# Altium schematic symbol library Power Management Linear Regulator.SchLib: 508 symbols (part 9 of 10)
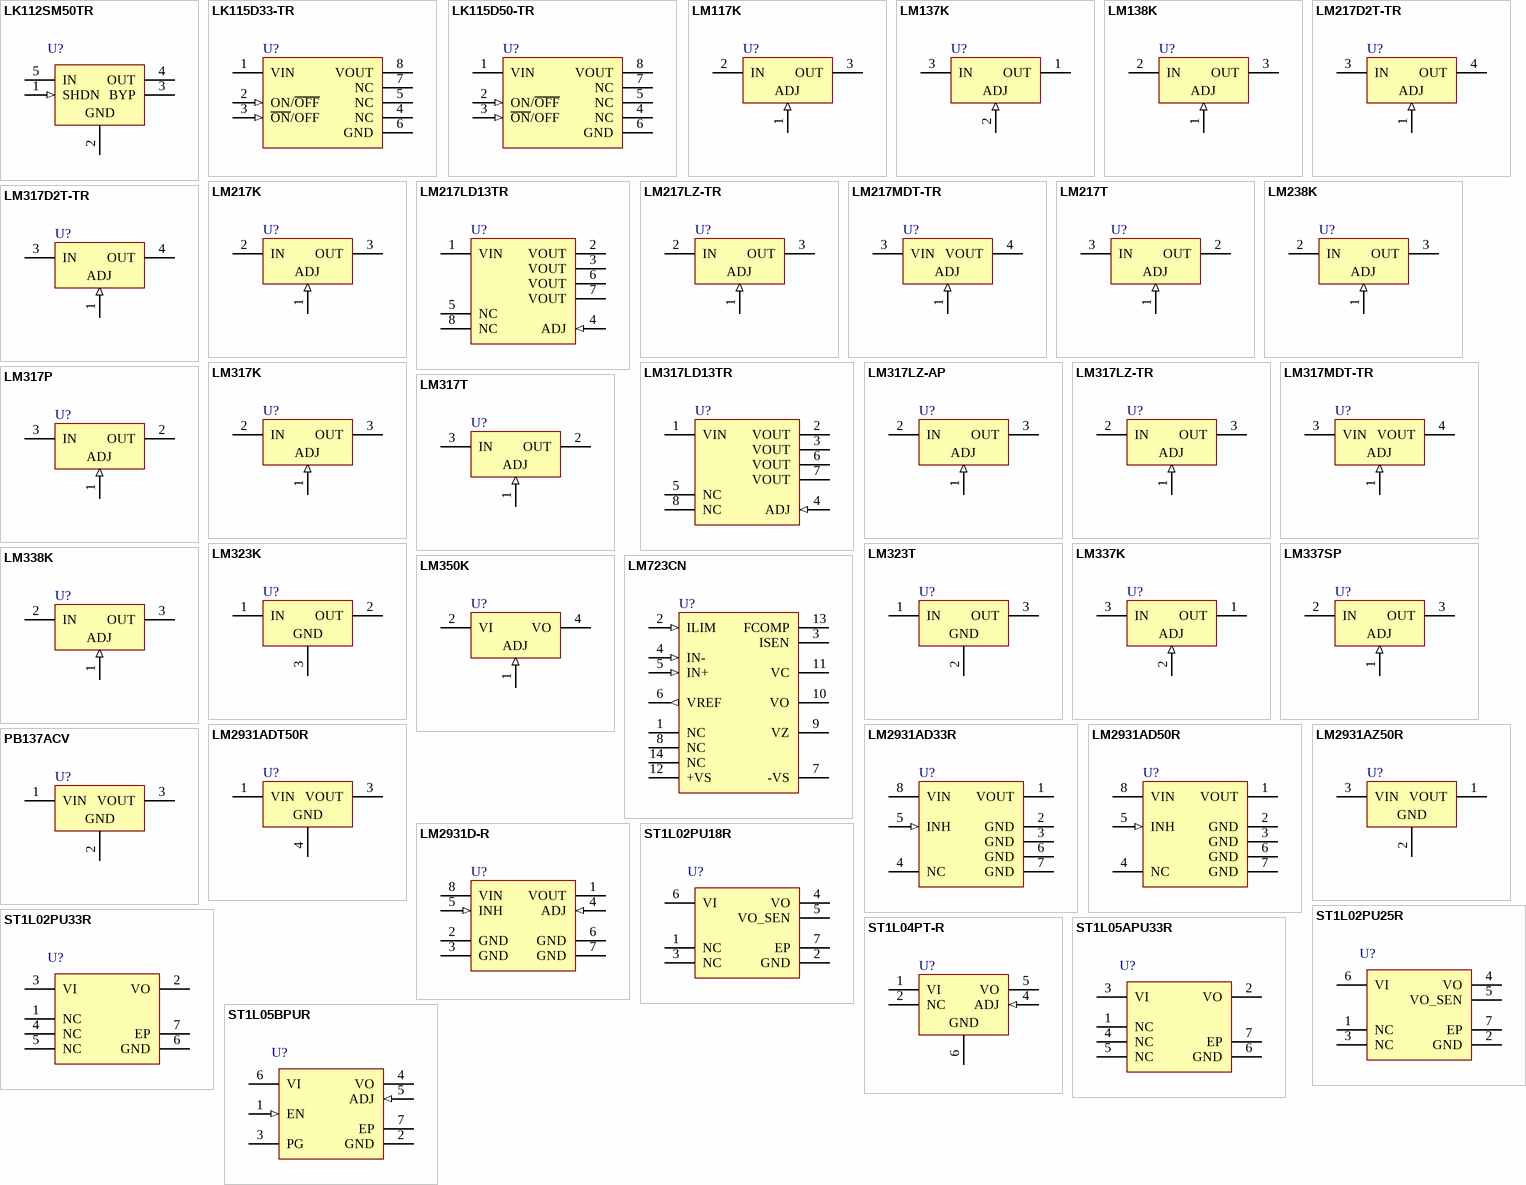
[diagram p20: symbols LK112SM50TR to ST1L05BPUR]

## LM217D2T-TR
designator U?
1.5A, 1.2V to 37V Adjustable Voltage Regulator, 3-Pin D2PAK, Tape and Reel; PartNumber: LM217D2T-TR; DatasheetVersion: Nov-2011; PackageVersion: 2011; PackageReference: TO-263; PackageDescription: 3-Pin Transistor Outline Package 2.54 mm Pitch, 15.4 mm Lead Span (D2PAK); ComponentLink1Description: Manufacturer URL; ComponentLink1URL: http://www.st.com; ComponentLink2Description: Datasheet; ComponentLink2URL: http://www.st.com/internet/com/TECHNICAL_RESOURCES/TECHNICAL_LITERATURE/DATASHEET/CD00000455.pdf
footprint TO-263_N (D2-PAK, 4-Leads, Body 9.2x10.2mm, Pitch 2.54mm, Lead Span 15.4mm, IPC Medium Density)
footprint TO-263_L (D2-PAK, 4-Leads, Body 9.2x10.2mm, Pitch 2.54mm, Lead Span 15.4mm, IPC High Density)
footprint TO-263_M (D2-PAK, 4-Leads, Body 9.2x10.2mm, Pitch 2.54mm, Lead Span 15.4mm, IPC Low Density)
pins: 1 ADJ (in), 3 IN (power), 4 OUT (power)

## LM217K
designator U?
1.5A, 1.2V to 37V Adjustable Voltage Regulator, 3-Pin TO-3; PartNumber: LM217K; DatasheetVersion: Nov-2011; PackageVersion: ver1.0, Nov-2002; PackageReference: TO-3R; PackageDescription: Oval Flange Mount with (2) Offset Leads; Pin Spacing 10.92 mm; Lead Dia. 1.1 mm (max); ComponentLink1Description: Manufacturer URL; ComponentLink1URL: http://www.st.com; ComponentLink2Description: Datasheet; ComponentLink2URL: http://www.st.com/internet/com/TECHNICAL_RESOURCES/TECHNICAL_LITERATURE/DATASHEET/CD00000455.pdf; ComponentLink3Description: Package Specification; ComponentLink3URL: http://www.st.com/internet/com/TECHNICAL_RESOURCES/TECHNICAL_LITERATURE/PACKAGE_INFORMATION/CD00004846.pdf
footprint TO-3R (Oval Flange Mount with (2) Offset Leads; Pin Spacing 10.92 mm; Lead Dia. 1.1 mm (max))
pins: 1 ADJ (in), 2 IN (power), 3 OUT (power)

## LM217LD13TR
designator U?
Low Current 1.2 to 37V Adjustable Voltage Regulator, 8-Pin SO, Tape and Reel; PartNumber: LM217LD13TR; DatasheetVersion: May-2007; PackageVersion: Dec-2002; PackageReference: SO8; PackageDescription: 8-Pin Small Outline Integrated Circuit 1.27 mm Pitch; Code_JEDEC: MS-012-AA; Code_IPC: SOIC127P600-8; ComponentLink1Description: Manufacturer URL; ComponentLink1URL: http://www.st.com; ComponentLink2Description: Datasheet; ComponentLink2URL: http://www.st.com/internet/com/TECHNICAL_RESOURCES/TECHNICAL_LITERATURE/DATASHEET/CD00000469.pdf; ComponentLink3Description: Package Specification; ComponentLink3URL: http://www.st.com/internet/com/TECHNICAL_RESOURCES/TECHNICAL_LITERATURE/PACKAGE_INFORMATION/CD00004680.pdf
footprint SO8_N (SOIC, 8-Leads, Body 4.9x3.9mm, Pitch 1.27mm, IPC Medium Density)
footprint SO8_L (SOIC, 8-Leads, Body 4.9x3.9mm, Pitch 1.27mm, IPC High Density)
footprint SO8_M (SOIC, 8-Leads, Body 4.9x3.9mm, Pitch 1.27mm, IPC Low Density)
pins: 1 VIN (power), 2 VOUT (power), 3 VOUT (power), 4 ADJ (in), 5 NC, 6 VOUT (power), 7 VOUT (power), 8 NC

## LM217LZ-TR
designator U?
Low Current 1.2 to 37V Adjustable Voltage Regulator, 3-Pin TO-92, Tape and Reel; PartNumber: LM217LZ-TR; DatasheetVersion: May-2007; PackageVersion: 2011; PackageReference: TO-92; PackageDescription: TO, Flat Index; 3 In-Line, Axial Leads; Body Dia. 4.7mm; Lead Dia. 0.56 mm (max); ComponentLink1Description: Manufacturer URL; ComponentLink1URL: http://www.st.com; ComponentLink2Description: Datasheet; ComponentLink2URL: http://www.st.com/internet/com/TECHNICAL_RESOURCES/TECHNICAL_LITERATURE/DATASHEET/CD00000469.pdf
footprint TO-92 (TO, Flat Index; 3 In-Line, Axial Leads; Body Dia. 4.7mm; Lead Dia. 0.56 mm (max))
pins: 1 ADJ (in), 2 IN (power), 3 OUT (power)

## LM217MDT-TR
designator U?
500mA, Medium Current 1.2 to 37 V Adjustable Voltage Regulator, 3-Pin DPAK, Tape and Reel; PartNumber: LM217MDT-TR; DatasheetVersion: Feb-2008; PackageVersion: 2011; PackageReference: TO-252; PackageDescription: 3-Pin Transistor Outline Package 2.28 mm Pitch, 9.7 mm Lead Span (DPAK); ComponentLink1Description: Manufacturer URL; ComponentLink1URL: http://www.st.com; ComponentLink2Description: Datasheet; ComponentLink2URL: http://www.st.com/internet/com/TECHNICAL_RESOURCES/TECHNICAL_LITERATURE/DATASHEET/CD00000549.pdf
footprint TO-252_N (D-PAK, 4-Leads, Body 6.1x6.5mm, Pitch 2.28mm, Lead Span 9.7mm, IPC Medium Density)
footprint TO-252_L (D-PAK, 4-Leads, Body 6.1x6.5mm, Pitch 2.28mm, Lead Span 9.7mm, IPC High Density)
footprint TO-252_M (D-PAK, 4-Leads, Body 6.1x6.5mm, Pitch 2.28mm, Lead Span 9.7mm, IPC Low Density)
pins: 1 ADJ (in), 3 VIN (power), 4 VOUT (power)

## LM217T
designator U?
1.5A, 1.2V to 37V Adjustable Voltage Regulator, 3-Pin TO-220; PartNumber: LM217T; DatasheetVersion: Nov-2011; PackageVersion: 2011; PackageReference: TO-220; PackageDescription: TO, Thru-Hole, Vertical, Heatsink Mounted; 3 In-Line Leads; Pitch 2.54 mm; ComponentLink1Description: Manufacturer URL; ComponentLink1URL: http://www.st.com; ComponentLink2Description: Datasheet; ComponentLink2URL: http://www.st.com/internet/com/TECHNICAL_RESOURCES/TECHNICAL_LITERATURE/DATASHEET/CD00000455.pdf
footprint TO-220 (TO, Thru-Hole, Vertical, Heatsink Mounted; 3 In-Line Leads; Pitch 2.54 mm)
pins: 1 ADJ (in), 2 OUT (power), 3 IN (power)

## LM238K
designator U?
Three-Terminal 5 A Adjustable Voltage Regulator, -25 °C to 150 °C, 3-Pin TO-3; PartNumber: LM238K; DatasheetVersion: Apr-2008; PackageVersion: ver1.0, Nov-2002; PackageReference: TO-3R; PackageDescription: Oval Flange Mount with (2) Offset Leads; Pin Spacing 10.92 mm; Lead Dia. 1.1 mm (max); ComponentLink1Description: Manufacturer URL; ComponentLink1URL: http://www.st.com; ComponentLink2Description: Datasheet; ComponentLink2URL: http://www.st.com/internet/com/TECHNICAL_RESOURCES/TECHNICAL_LITERATURE/DATASHEET/CD00000548.pdf; ComponentLink3Description: Package Specification; ComponentLink3URL: http://www.st.com/internet/com/TECHNICAL_RESOURCES/TECHNICAL_LITERATURE/PACKAGE_INFORMATION/CD00004846.pdf
footprint TO-3R (Oval Flange Mount with (2) Offset Leads; Pin Spacing 10.92 mm; Lead Dia. 1.1 mm (max))
pins: 1 ADJ (in), 2 IN (power), 3 OUT (power)

## LM317D2T-TR
designator U?
1.5A, 1.2V to 37V Adjustable Voltage Regulator, 3-Pin D2PAK, Tape and Reel; PartNumber: LM317D2T-TR; DatasheetVersion: Nov-2011; PackageVersion: 2011; PackageReference: TO-263; PackageDescription: 3-Pin Transistor Outline Package 2.54 mm Pitch, 15.4 mm Lead Span (D2PAK); ComponentLink1Description: Manufacturer URL; ComponentLink1URL: http://www.st.com; ComponentLink2Description: Datasheet; ComponentLink2URL: http://www.st.com/internet/com/TECHNICAL_RESOURCES/TECHNICAL_LITERATURE/DATASHEET/CD00000455.pdf
footprint TO-263_N (D2-PAK, 4-Leads, Body 9.2x10.2mm, Pitch 2.54mm, Lead Span 15.4mm, IPC Medium Density)
footprint TO-263_L (D2-PAK, 4-Leads, Body 9.2x10.2mm, Pitch 2.54mm, Lead Span 15.4mm, IPC High Density)
footprint TO-263_M (D2-PAK, 4-Leads, Body 9.2x10.2mm, Pitch 2.54mm, Lead Span 15.4mm, IPC Low Density)
pins: 1 ADJ (in), 3 IN (power), 4 OUT (power)

## LM317K
designator U?
1.5A, 1.2V to 37V Adjustable Voltage Regulator, 3-Pin TO-3; PartNumber: LM317K; DatasheetVersion: Nov-2011; PackageVersion: ver1.0, Nov-2002; PackageReference: TO-3R; PackageDescription: Oval Flange Mount with (2) Offset Leads; Pin Spacing 10.92 mm; Lead Dia. 1.1 mm (max); ComponentLink1Description: Manufacturer URL; ComponentLink1URL: http://www.st.com; ComponentLink2Description: Datasheet; ComponentLink2URL: http://www.st.com/internet/com/TECHNICAL_RESOURCES/TECHNICAL_LITERATURE/DATASHEET/CD00000455.pdf; ComponentLink3Description: Package Specification; ComponentLink3URL: http://www.st.com/internet/com/TECHNICAL_RESOURCES/TECHNICAL_LITERATURE/PACKAGE_INFORMATION/CD00004846.pdf
footprint TO-3R (Oval Flange Mount with (2) Offset Leads; Pin Spacing 10.92 mm; Lead Dia. 1.1 mm (max))
pins: 1 ADJ (in), 2 IN (power), 3 OUT (power)

## LM317LD13TR
designator U?
Low Current 1.2 to 37V Adjustable Voltage Regulator, 8-Pin SO, Tape and Reel; PartNumber: LM317LD13TR; DatasheetVersion: May-2007; PackageVersion: Dec-2002; PackageReference: SO8; PackageDescription: 8-Pin Small Outline Integrated Circuit 1.27 mm Pitch; Code_JEDEC: MS-012-AA; Code_IPC: SOIC127P600-8; ComponentLink1Description: Manufacturer URL; ComponentLink1URL: http://www.st.com; ComponentLink2Description: Datasheet; ComponentLink2URL: http://www.st.com/internet/com/TECHNICAL_RESOURCES/TECHNICAL_LITERATURE/DATASHEET/CD00000469.pdf; ComponentLink3Description: Package Specification; ComponentLink3URL: http://www.st.com/internet/com/TECHNICAL_RESOURCES/TECHNICAL_LITERATURE/PACKAGE_INFORMATION/CD00004680.pdf
footprint SO8_N (SOIC, 8-Leads, Body 4.9x3.9mm, Pitch 1.27mm, IPC Medium Density)
footprint SO8_L (SOIC, 8-Leads, Body 4.9x3.9mm, Pitch 1.27mm, IPC High Density)
footprint SO8_M (SOIC, 8-Leads, Body 4.9x3.9mm, Pitch 1.27mm, IPC Low Density)
pins: 1 VIN (power), 2 VOUT (power), 3 VOUT (power), 4 ADJ (in), 5 NC, 6 VOUT (power), 7 VOUT (power), 8 NC

## LM317LZ-AP
designator U?
Low Current 1.2 to 37V Adjustable Voltage Regulator, 3-Pin TO-92; PartNumber: LM317LZ-AP; DatasheetVersion: May-2007; PackageVersion: 2011; PackageReference: TO-92; PackageDescription: TO, Flat Index; 3 In-Line, Axial Leads; Body Dia. 4.7mm; Lead Dia. 0.56 mm (max); ComponentLink1Description: Manufacturer URL; ComponentLink1URL: http://www.st.com; ComponentLink2Description: Datasheet; ComponentLink2URL: http://www.st.com/internet/com/TECHNICAL_RESOURCES/TECHNICAL_LITERATURE/DATASHEET/CD00000469.pdf
footprint TO-92 (TO, Flat Index; 3 In-Line, Axial Leads; Body Dia. 4.7mm; Lead Dia. 0.56 mm (max))
pins: 1 ADJ (in), 2 IN (power), 3 OUT (power)

## LM317LZ-TR
designator U?
Low Current 1.2 to 37V Adjustable Voltage Regulator, 3-Pin TO-92, Tape and Reel; PartNumber: LM317LZ-TR; DatasheetVersion: May-2007; PackageVersion: 2011; PackageReference: TO-92; PackageDescription: TO, Flat Index; 3 In-Line, Axial Leads; Body Dia. 4.7mm; Lead Dia. 0.56 mm (max); ComponentLink1Description: Manufacturer URL; ComponentLink1URL: http://www.st.com; ComponentLink2Description: Datasheet; ComponentLink2URL: http://www.st.com/internet/com/TECHNICAL_RESOURCES/TECHNICAL_LITERATURE/DATASHEET/CD00000469.pdf
footprint TO-92 (TO, Flat Index; 3 In-Line, Axial Leads; Body Dia. 4.7mm; Lead Dia. 0.56 mm (max))
pins: 1 ADJ (in), 2 IN (power), 3 OUT (power)

## LM317MDT-TR
designator U?
500mA, Medium Current 1.2 to 37 V Adjustable Voltage Regulator, 3-Pin DPAK, Tape and Reel; PartNumber: LM317MDT-TR; DatasheetVersion: Feb-2008; PackageVersion: 2011; PackageReference: TO-252; PackageDescription: 3-Pin Transistor Outline Package 2.28 mm Pitch, 9.7 mm Lead Span (DPAK); ComponentLink1Description: Manufacturer URL; ComponentLink1URL: http://www.st.com; ComponentLink2Description: Datasheet; ComponentLink2URL: http://www.st.com/internet/com/TECHNICAL_RESOURCES/TECHNICAL_LITERATURE/DATASHEET/CD00000549.pdf
footprint TO-252_N (D-PAK, 4-Leads, Body 6.1x6.5mm, Pitch 2.28mm, Lead Span 9.7mm, IPC Medium Density)
footprint TO-252_L (D-PAK, 4-Leads, Body 6.1x6.5mm, Pitch 2.28mm, Lead Span 9.7mm, IPC High Density)
footprint TO-252_M (D-PAK, 4-Leads, Body 6.1x6.5mm, Pitch 2.28mm, Lead Span 9.7mm, IPC Low Density)
pins: 1 ADJ (in), 3 VIN (power), 4 VOUT (power)

## LM317P
designator U?
1.5A, 1.2V to 37V Adjustable Voltage Regulator, 3-Pin TO-220FP; PartNumber: LM317P; DatasheetVersion: Nov-2011; PackageVersion: 2011; PackageReference: TO220FP; PackageDescription: TO, Thru-Hole, Vertical, Heatsink Mounted; 3 In-Line Leads; Pitch 2.54 mm; ComponentLink1Description: Manufacturer URL; ComponentLink1URL: http://www.st.com; ComponentLink2Description: Datasheet; ComponentLink2URL: http://www.st.com/internet/com/TECHNICAL_RESOURCES/TECHNICAL_LITERATURE/DATASHEET/CD00000455.pdf
footprint TO220FP (TO, Thru-Hole, Vertical, Heatsink Mounted; 3 In-Line Leads; Pitch 2.54 mm)
pins: 1 ADJ (in), 2 OUT (power), 3 IN (power)

## LM317T
designator U?
1.5A, 1.2V to 37V Adjustable Voltage Regulator, 3-Pin TO-220; PartNumber: LM317T; DatasheetVersion: Nov-2011; PackageVersion: 2011; PackageReference: TO-220; PackageDescription: TO, Thru-Hole, Vertical, Heatsink Mounted; 3 In-Line Leads; Pitch 2.54 mm; ComponentLink1Description: Manufacturer URL; ComponentLink1URL: http://www.st.com; ComponentLink2Description: Datasheet; ComponentLink2URL: http://www.st.com/internet/com/TECHNICAL_RESOURCES/TECHNICAL_LITERATURE/DATASHEET/CD00000455.pdf; ComponentLink3Description: Package Specification; ComponentLink3URL: http://www.st.com/internet/com/TECHNICAL_RESOURCES/TECHNICAL_LITERATURE/PACKAGE_INFORMATION/CD00004649.pdf
footprint TO-220 (TO, Thru-Hole, Vertical, Heatsink Mounted; 3 In-Line Leads; Pitch 2.54 mm)
pins: 1 ADJ (in), 2 OUT (power), 3 IN (power)

## LM323K
designator U?
Three-Terminal 3A-5V Positive Voltage Regulator, 3-Pin TO-3; PartNumber: LM323K; DatasheetVersion: Feb-2008; PackageVersion: ver1.0, Nov-2002; PackageReference: TO-3R; PackageDescription: Oval Flange Mount with (2) Offset Leads; Pin Spacing 10.92 mm; Lead Dia. 1.1 mm (max); ComponentLink1Description: Manufacturer URL; ComponentLink1URL: http://www.st.com; ComponentLink2Description: Datasheet; ComponentLink2URL: http://www.st.com/internet/com/TECHNICAL_RESOURCES/TECHNICAL_LITERATURE/DATASHEET/CD00000466.pdf; ComponentLink3Description: Package Specification; ComponentLink3URL: http://www.st.com/internet/com/TECHNICAL_RESOURCES/TECHNICAL_LITERATURE/PACKAGE_INFORMATION/CD00004846.pdf
footprint TO-3R (Oval Flange Mount with (2) Offset Leads; Pin Spacing 10.92 mm; Lead Dia. 1.1 mm (max))
pins: 1 IN (power), 2 OUT (power), 3 GND (power)

## LM323T
designator U?
Three-Terminal 3A-5V Positive Voltage Regulator, 3-Pin TO-220; PartNumber: LM323T; DatasheetVersion: Feb-2008; PackageVersion: ver3.0; PackageReference: TO220; PackageDescription: TO, Thru-Hole, Vertical, Heatsink Mounted; 3 In-Line Leads; Pitch 2.54 mm; ComponentLink1Description: Manufacturer URL; ComponentLink1URL: http://www.st.com; ComponentLink2Description: Datasheet; ComponentLink2URL: http://www.st.com/internet/com/TECHNICAL_RESOURCES/TECHNICAL_LITERATURE/DATASHEET/CD00000466.pdf; ComponentLink3Description: Package Specification; ComponentLink3URL: http://www.st.com/internet/com/TECHNICAL_RESOURCES/TECHNICAL_LITERATURE/PACKAGE_INFORMATION/CD00004649.pdf
footprint TO220 (TO, Thru-Hole, Vertical, Heatsink Mounted; 3 In-Line Leads; Pitch 2.54 mm)
pins: 1 IN (power), 2 GND (power), 3 OUT (power)

## LM337K
designator U?
Three-Terminal Negative Voltage Regulator, 3-Pin TO-3; PartNumber: LM337K; DatasheetVersion: Oct-2011; PackageVersion: ver1.0, Nov-2002; PackageReference: TO-3R; PackageDescription: Oval Flange Mount with (2) Offset Leads; Pin Spacing 10.92 mm; Lead Dia. 1.1 mm (max); ComponentLink1Description: Manufacturer URL; ComponentLink1URL: http://www.st.com; ComponentLink2Description: Datasheet; ComponentLink2URL: http://www.st.com/internet/com/TECHNICAL_RESOURCES/TECHNICAL_LITERATURE/DATASHEET/CD00000468.pdf; ComponentLink3Description: Package Specification; ComponentLink3URL: http://www.st.com/internet/com/TECHNICAL_RESOURCES/TECHNICAL_LITERATURE/PACKAGE_INFORMATION/CD00004846.pdf
footprint TO-3R (Oval Flange Mount with (2) Offset Leads; Pin Spacing 10.92 mm; Lead Dia. 1.1 mm (max))
pins: 1 OUT (power), 2 ADJ (in), 3 IN (power)

## LM337SP
designator U?
Three-Terminal Negative Voltage Regulator, 3-Pin TO-220; PartNumber: LM337SP; DatasheetVersion: Oct-2011; PackageVersion: ver3.0; PackageReference: TO220; PackageDescription: TO, Thru-Hole, Vertical, Heatsink Mounted; 3 In-Line Leads; Pitch 2.54 mm; ComponentLink1Description: Manufacturer URL; ComponentLink1URL: http://www.st.com; ComponentLink2Description: Datasheet; ComponentLink2URL: http://www.st.com/internet/com/TECHNICAL_RESOURCES/TECHNICAL_LITERATURE/DATASHEET/CD00000468.pdf; ComponentLink3Description: Package Specification; ComponentLink3URL: http://www.st.com/internet/com/TECHNICAL_RESOURCES/TECHNICAL_LITERATURE/PACKAGE_INFORMATION/CD00004649.pdf
footprint TO220 (TO, Thru-Hole, Vertical, Heatsink Mounted; 3 In-Line Leads; Pitch 2.54 mm)
pins: 1 ADJ (in), 2 IN (power), 3 OUT (power)

## LM338K
designator U?
Three-Terminal 5 A Adjustable Voltage Regulator, 0 °C to 125 °C, 3-Pin TO-3; PartNumber: LM338K; DatasheetVersion: Apr-2008; PackageVersion: ver1.0, Nov-2002; PackageReference: TO-3R; PackageDescription: Oval Flange Mount with (2) Offset Leads; Pin Spacing 10.92 mm; Lead Dia. 1.1 mm (max); ComponentLink1Description: Manufacturer URL; ComponentLink1URL: http://www.st.com; ComponentLink2Description: Datasheet; ComponentLink2URL: http://www.st.com/internet/com/TECHNICAL_RESOURCES/TECHNICAL_LITERATURE/DATASHEET/CD00000548.pdf; ComponentLink3Description: Package Specification; ComponentLink3URL: http://www.st.com/internet/com/TECHNICAL_RESOURCES/TECHNICAL_LITERATURE/PACKAGE_INFORMATION/CD00004846.pdf
footprint TO-3R (Oval Flange Mount with (2) Offset Leads; Pin Spacing 10.92 mm; Lead Dia. 1.1 mm (max))
pins: 1 ADJ (in), 2 IN (power), 3 OUT (power)

## LM350K
designator U?
Three-Terminal 3A Adjustable Voltage Regulator, 3-Pin TO-3; PartNumber: LM350K; DatasheetVersion: Feb-2008; PackageVersion: ver1.0, Nov-2002; PackageReference: TO-3R; PackageDescription: Oval Flange Mount with (2) Offset Leads; Pin Spacing 10.92 mm; Lead Dia. 1.1 mm (max); ComponentLink1Description: Manufacturer URL; ComponentLink1URL: http://www.st.com; ComponentLink2Description: Datasheet; ComponentLink2URL: http://www.st.com/internet/com/TECHNICAL_RESOURCES/TECHNICAL_LITERATURE/DATASHEET/CD00000463.pdf; ComponentLink3Description: Package Specification; ComponentLink3URL: http://www.st.com/internet/com/TECHNICAL_RESOURCES/TECHNICAL_LITERATURE/PACKAGE_INFORMATION/CD00004846.pdf
footprint TO-3R (Oval Flange Mount with (2) Offset Leads; Pin Spacing 10.92 mm; Lead Dia. 1.1 mm (max))
pins: 1 ADJ (in), 2 VI (power), 4 VO (power)

## LM723CN
designator U?
High-Precision Voltage Regulator, 14-Pin DIP; PartNumber: LM723CN; DatasheetVersion: Nov-2007; PackageVersion: ver1.0, Nov-2002; PackageReference: DIP14; PackageDescription: 14-Lead, Dual In-Line Package, Row Spacing 7.62 mm, Pitch 2.54 mm; ComponentLink1Description: Manufacturer URL; ComponentLink1URL: http://www.st.com; ComponentLink2Description: Datasheet; ComponentLink2URL: http://www.st.com/internet/com/TECHNICAL_RESOURCES/TECHNICAL_LITERATURE/DATASHEET/CD00001008.pdf; ComponentLink3Description: Package Specification; ComponentLink3URL: http://www.st.com/internet/com/TECHNICAL_RESOURCES/TECHNICAL_LITERATURE/PACKAGE_INFORMATION/CD00004821.pdf
footprint DIP-14 (DIP, 14-Leads, Row Spacing 7.62mm, Pitch 2.54mm, Body 19.6x6.6mm)
pins: 1 NC, 2 ILIM (in), 3 ISEN (oe), 4 IN- (in), 5 IN+ (in), 6 VREF (out), 7 -VS (power), 8 NC, 9 VZ, 10 VO (power), 11 VC (oc), 12 +VS (power), 13 FCOMP (oc), 14 NC

## LM2931AD33R
designator U?
100mA, Very Low Drop Voltage Regulator with Inhibit Function, 3.3V, 8-Pin SO; PartNumber: LM2931AD33R; DatasheetVersion: Nov-2011; PackageVersion: Dec-2002; PackageReference: SO8; PackageDescription: 8-Pin Small Outline Integrated Circuit 1.27 mm Pitch; Code_JEDEC: MS-012-AA; Code_IPC: SOIC127P600-8; ComponentLink1Description: Manufacturer URL; ComponentLink1URL: http://www.st.com; ComponentLink2Description: Datasheet; ComponentLink2URL: http://www.st.com/internet/com/TECHNICAL_RESOURCES/TECHNICAL_LITERATURE/DATASHEET/CD00001885.pdf; ComponentLink3Description: Package Specification; ComponentLink3URL: http://www.st.com/internet/com/TECHNICAL_RESOURCES/TECHNICAL_LITERATURE/PACKAGE_INFORMATION/CD00004680.pdf
footprint SO8_N (SOIC, 8-Leads, Body 4.9x3.9mm, Pitch 1.27mm, IPC Medium Density)
footprint SO8_L (SOIC, 8-Leads, Body 4.9x3.9mm, Pitch 1.27mm, IPC High Density)
footprint SO8_M (SOIC, 8-Leads, Body 4.9x3.9mm, Pitch 1.27mm, IPC Low Density)
pins: 1 VOUT (power), 2 GND (power), 3 GND (power), 4 NC, 5 INH (in), 6 GND (power), 7 GND (power), 8 VIN (power)

## LM2931AD50R
designator U?
100mA, Very Low Drop Voltage Regulator with Inhibit Function, 5V, 8-Pin SO; PartNumber: LM2931AD50R; DatasheetVersion: Nov-2011; PackageVersion: Dec-2002; PackageReference: SO8; PackageDescription: 8-Pin Small Outline Integrated Circuit 1.27 mm Pitch; Code_JEDEC: MS-012-AA; Code_IPC: SOIC127P600-8; ComponentLink1Description: Manufacturer URL; ComponentLink1URL: http://www.st.com; ComponentLink2Description: Datasheet; ComponentLink2URL: http://www.st.com/internet/com/TECHNICAL_RESOURCES/TECHNICAL_LITERATURE/DATASHEET/CD00001885.pdf; ComponentLink3Description: Package Specification; ComponentLink3URL: http://www.st.com/internet/com/TECHNICAL_RESOURCES/TECHNICAL_LITERATURE/PACKAGE_INFORMATION/CD00004680.pdf
footprint SO8_N (SOIC, 8-Leads, Body 4.9x3.9mm, Pitch 1.27mm, IPC Medium Density)
footprint SO8_L (SOIC, 8-Leads, Body 4.9x3.9mm, Pitch 1.27mm, IPC High Density)
footprint SO8_M (SOIC, 8-Leads, Body 4.9x3.9mm, Pitch 1.27mm, IPC Low Density)
pins: 1 VOUT (power), 2 GND (power), 3 GND (power), 4 NC, 5 INH (in), 6 GND (power), 7 GND (power), 8 VIN (power)

## LM2931ADT50R
designator U?
100mA, Very Low Drop Voltage Regulator with Inhibit Function, 5V, 3-Pin DPAK; PartNumber: LM2931ADT50R; DatasheetVersion: Nov-2011; PackageVersion: 2011; PackageReference: TO-252; PackageDescription: 3-Pin Transistor Outline Package 2.28 mm Pitch, 9.7 mm Lead Span (DPAK); ComponentLink1Description: Manufacturer URL; ComponentLink1URL: http://www.st.com; ComponentLink2Description: Datasheet; ComponentLink2URL: http://www.st.com/internet/com/TECHNICAL_RESOURCES/TECHNICAL_LITERATURE/DATASHEET/CD00001885.pdf
footprint TO-252_N (D-PAK, 4-Leads, Body 6.1x6.5mm, Pitch 2.28mm, Lead Span 9.7mm, IPC Medium Density)
footprint TO-252_L (D-PAK, 4-Leads, Body 6.1x6.5mm, Pitch 2.28mm, Lead Span 9.7mm, IPC High Density)
footprint TO-252_M (D-PAK, 4-Leads, Body 6.1x6.5mm, Pitch 2.28mm, Lead Span 9.7mm, IPC Low Density)
pins: 1 VIN (power), 3 VOUT (power), 4 GND (power)

## LM2931AZ50R
designator U?
100mA, Very Low Drop Voltage Regulator with Inhibit Function, 5V, 3-Pin TO-92; PartNumber: LM2931AZ50R; DatasheetVersion: Nov-2011; PackageVersion: 2011; PackageReference: TO-92; PackageDescription: TO, Flat Index; 3 In-Line, Axial Leads; Body Dia. 4.7mm; Lead Dia. 0.56 mm (max); ComponentLink1Description: Manufacturer URL; ComponentLink1URL: http://www.st.com; ComponentLink2Description: Datasheet; ComponentLink2URL: http://www.st.com/internet/com/TECHNICAL_RESOURCES/TECHNICAL_LITERATURE/DATASHEET/CD00001885.pdf
footprint TO-92 (TO, Flat Index; 3 In-Line, Axial Leads; Body Dia. 4.7mm; Lead Dia. 0.56 mm (max))
pins: 1 VOUT (power), 2 GND (power), 3 VIN (power)

## LM2931D-R
designator U?
100mA, Very Low Drop Voltage Regulator with Inhibit Function, Adjustable Vo, 2.5 to 26V, 8-Pin SO; PartNumber: LM2931D-R; DatasheetVersion: Nov-2011; PackageVersion: Dec-2002; PackageReference: SO8; PackageDescription: 8-Pin Small Outline Integrated Circuit 1.27 mm Pitch; Code_JEDEC: MS-012-AA; Code_IPC: SOIC127P600-8; ComponentLink1Description: Manufacturer URL; ComponentLink1URL: http://www.st.com; ComponentLink2Description: Datasheet; ComponentLink2URL: http://www.st.com/internet/com/TECHNICAL_RESOURCES/TECHNICAL_LITERATURE/DATASHEET/CD00001885.pdf; ComponentLink3Description: Package Specification; ComponentLink3URL: http://www.st.com/internet/com/TECHNICAL_RESOURCES/TECHNICAL_LITERATURE/PACKAGE_INFORMATION/CD00004680.pdf
footprint SO8_N (SOIC, 8-Leads, Body 4.9x3.9mm, Pitch 1.27mm, IPC Medium Density)
footprint SO8_L (SOIC, 8-Leads, Body 4.9x3.9mm, Pitch 1.27mm, IPC High Density)
footprint SO8_M (SOIC, 8-Leads, Body 4.9x3.9mm, Pitch 1.27mm, IPC Low Density)
pins: 1 VOUT (power), 2 GND (power), 3 GND (power), 4 ADJ (in), 5 INH (in), 6 GND (power), 7 GND (power), 8 VIN (power)

## PB137ACV
designator U?
1.5A, Positive Voltage Regulator for Battery Charger, 1.5V, 3-Pin TO-220; PartNumber: PB137ACV; DatasheetVersion: Nov-2010; PackageVersion: ver3.0; PackageReference: TO220; PackageDescription: TO, Thru-Hole, Vertical, Heatsink Mounted; 3 In-Line Leads; Pitch 2.54 mm; ComponentLink1Description: Manufacturer URL; ComponentLink1URL: http://www.st.com; ComponentLink2Description: Datasheet; ComponentLink2URL: http://www.st.com/internet/com/TECHNICAL_RESOURCES/TECHNICAL_LITERATURE/DATASHEET/CD00001634.pdf; ComponentLink3Description: Package Specification; ComponentLink3URL: http://www.st.com/internet/com/TECHNICAL_RESOURCES/TECHNICAL_LITERATURE/PACKAGE_INFORMATION/CD00004649.pdf
footprint TO220 (TO, Thru-Hole, Vertical, Heatsink Mounted; 3 In-Line Leads; Pitch 2.54 mm)
pins: 1 VIN (power), 2 GND (power), 3 VOUT (power)

## ST1L02PU18R
designator U?
Very Low Quiescent BiCMOS Voltage Regulator, 6-Pin VFDFPN, Tape and Reel; PartNumber: ST1L02PU18R; DatasheetVersion: Mar-2008; PackageVersion: 2008; PackageReference: DFN6D; PackageDescription: 6-Pin Plastic, Dual LLP, 3 x 3 mm Body, 0.95 mm Pitch, Exposed Pad; ComponentLink1Description: Manufacturer URL; ComponentLink1URL: http://www.st.com; ComponentLink2Description: Datasheet; ComponentLink2URL: http://www.st.com/internet/com/TECHNICAL_RESOURCES/TECHNICAL_LITERATURE/DATASHEET/CD00050492.pdf
footprint DFN6D_N (SON, 6-Leads, Body 3x3mm, Pitch 0.95mm, Thermal Pad 2.4x1.65mm, IPC Medium Density)
footprint DFN6D_L (SON, 6-Leads, Body 3x3mm, Pitch 0.95mm, Thermal Pad 2.4x1.65mm, IPC High Density)
footprint DFN6D_M (SON, 6-Leads, Body 3x3mm, Pitch 0.95mm, Thermal Pad 2.4x1.65mm, IPC Low Density)
pins: 1 NC, 2 GND (power), 3 NC, 4 VO (power), 5 VO_SEN, 6 VI (power), 7 EP (power)

## ST1L02PU25R
designator U?
Very Low Quiescent BiCMOS Voltage Regulator, 6-Pin VFDFPN, Tape and Reel; PartNumber: ST1L02PU25R; DatasheetVersion: Mar-2008; PackageVersion: 2008; PackageReference: DFN6D; PackageDescription: 6-Pin Plastic, Dual LLP, 3 x 3 mm Body, 0.95 mm Pitch, Exposed Pad; ComponentLink1Description: Manufacturer URL; ComponentLink1URL: http://www.st.com; ComponentLink2Description: Datasheet; ComponentLink2URL: http://www.st.com/internet/com/TECHNICAL_RESOURCES/TECHNICAL_LITERATURE/DATASHEET/CD00050492.pdf
footprint DFN6D_N (SON, 6-Leads, Body 3x3mm, Pitch 0.95mm, Thermal Pad 2.4x1.65mm, IPC Medium Density)
footprint DFN6D_L (SON, 6-Leads, Body 3x3mm, Pitch 0.95mm, Thermal Pad 2.4x1.65mm, IPC High Density)
footprint DFN6D_M (SON, 6-Leads, Body 3x3mm, Pitch 0.95mm, Thermal Pad 2.4x1.65mm, IPC Low Density)
pins: 1 NC, 2 GND (power), 3 NC, 4 VO (power), 5 VO_SEN, 6 VI (power), 7 EP (power)

## ST1L02PU33R
designator U?
Very Low Quiescent BiCMOS Voltage Regulator, 6-Pin VFDFPN, Tape and Reel; PartNumber: ST1L02PU33R; DatasheetVersion: Mar-2008; PackageVersion: 2008; PackageReference: DFN6D; PackageDescription: 6-Pin Plastic, Dual LLP, 3 x 3 mm Body, 0.95 mm Pitch, Exposed Pad; ComponentLink1Description: Manufacturer URL; ComponentLink1URL: http://www.st.com; ComponentLink2Description: Datasheet; ComponentLink2URL: http://www.st.com/internet/com/TECHNICAL_RESOURCES/TECHNICAL_LITERATURE/DATASHEET/CD00050492.pdf
footprint DFN6D_N (SON, 6-Leads, Body 3x3mm, Pitch 0.95mm, Thermal Pad 2.4x1.65mm, IPC Medium Density)
footprint DFN6D_L (SON, 6-Leads, Body 3x3mm, Pitch 0.95mm, Thermal Pad 2.4x1.65mm, IPC High Density)
footprint DFN6D_M (SON, 6-Leads, Body 3x3mm, Pitch 0.95mm, Thermal Pad 2.4x1.65mm, IPC Low Density)
pins: 1 NC, 2 VO (power), 3 VI (power), 4 NC, 5 NC, 6 GND (power), 7 EP (power)

## ST1L04PT-R
designator U?
Low quiescent Current Voltage Regulator, 5-Pin PPAK, Tape and Reel; PartNumber: ST1L04PT-R; DatasheetVersion: Feb-2005; PackageVersion: Jun-2004; PackageReference: PPAK; PackageDescription: 5-Pin Transistor Outline Package 1.27 mm Pitch, 9.7 mm Lead Span; ComponentLink1Description: Manufacturer URL; ComponentLink1URL: http://www.st.com; ComponentLink2Description: Datasheet; ComponentLink2URL: http://www.st.com/internet/com/TECHNICAL_RESOURCES/TECHNICAL_LITERATURE/DATASHEET/CD00049783.pdf
footprint PPAK_N (D-PAK, 6-Leads, Body 6.1x6.5mm, Pitch 1.27mm, Lead Span 9.7mm, IPC Medium Density)
footprint PPAK_L (D-PAK, 6-Leads, Body 6.1x6.5mm, Pitch 1.27mm, Lead Span 9.7mm, IPC High Density)
footprint PPAK_M (D-PAK, 6-Leads, Body 6.1x6.5mm, Pitch 1.27mm, Lead Span 9.7mm, IPC Low Density)
pins: 1 VI (power), 2 NC, 4 ADJ (in), 5 VO (power), 6 GND (power)

## ST1L05APU33R
designator U?
Very Low Quiescent BiCMOS Voltage Regulator, 3.3V, 6-Pin VFDFPN, Tape and Reel; PartNumber: ST1L05APU33R; DatasheetVersion: Sep-2009; PackageVersion: 2008; PackageReference: DFN6D; PackageDescription: 6-Pin Plastic, Dual LLP, 3 x 3 mm Body, 0.95 mm Pitch, Exposed Pad; ComponentLink1Description: Manufacturer URL; ComponentLink1URL: http://www.st.com; ComponentLink2Description: Datasheet; ComponentLink2URL: http://www.st.com/internet/com/TECHNICAL_RESOURCES/TECHNICAL_LITERATURE/DATASHEET/CD00186925.pdf
footprint DFN6D_N (SON, 6-Leads, Body 3x3mm, Pitch 0.95mm, Thermal Pad 2.4x1.65mm, IPC Medium Density)
footprint DFN6D_L (SON, 6-Leads, Body 3x3mm, Pitch 0.95mm, Thermal Pad 2.4x1.65mm, IPC High Density)
footprint DFN6D_M (SON, 6-Leads, Body 3x3mm, Pitch 0.95mm, Thermal Pad 2.4x1.65mm, IPC Low Density)
pins: 1 NC, 2 VO (power), 3 VI (power), 4 NC, 5 NC, 6 GND (power), 7 EP (power)

## ST1L05BPUR
designator U?
Very Low Quiescent BiCMOS Voltage Regulator, Adjustable Vo, 6-Pin VFDFPN, Tape and Reel; PartNumber: ST1L05BPUR; DatasheetVersion: Sep-2009; PackageVersion: 2008; PackageReference: DFN6D; PackageDescription: 6-Pin Plastic, Dual LLP, 3 x 3 mm Body, 0.95 mm Pitch, Exposed Pad; ComponentLink1Description: Manufacturer URL; ComponentLink1URL: http://www.st.com; ComponentLink2Description: Datasheet; ComponentLink2URL: http://www.st.com/internet/com/TECHNICAL_RESOURCES/TECHNICAL_LITERATURE/DATASHEET/CD00186925.pdf
footprint DFN6D_N (SON, 6-Leads, Body 3x3mm, Pitch 0.95mm, Thermal Pad 2.4x1.65mm, IPC Medium Density)
footprint DFN6D_L (SON, 6-Leads, Body 3x3mm, Pitch 0.95mm, Thermal Pad 2.4x1.65mm, IPC High Density)
footprint DFN6D_M (SON, 6-Leads, Body 3x3mm, Pitch 0.95mm, Thermal Pad 2.4x1.65mm, IPC Low Density)
pins: 1 EN (in), 2 GND (power), 3 PG (oc), 4 VO (power), 5 ADJ (in), 6 VI (power), 7 EP (power)

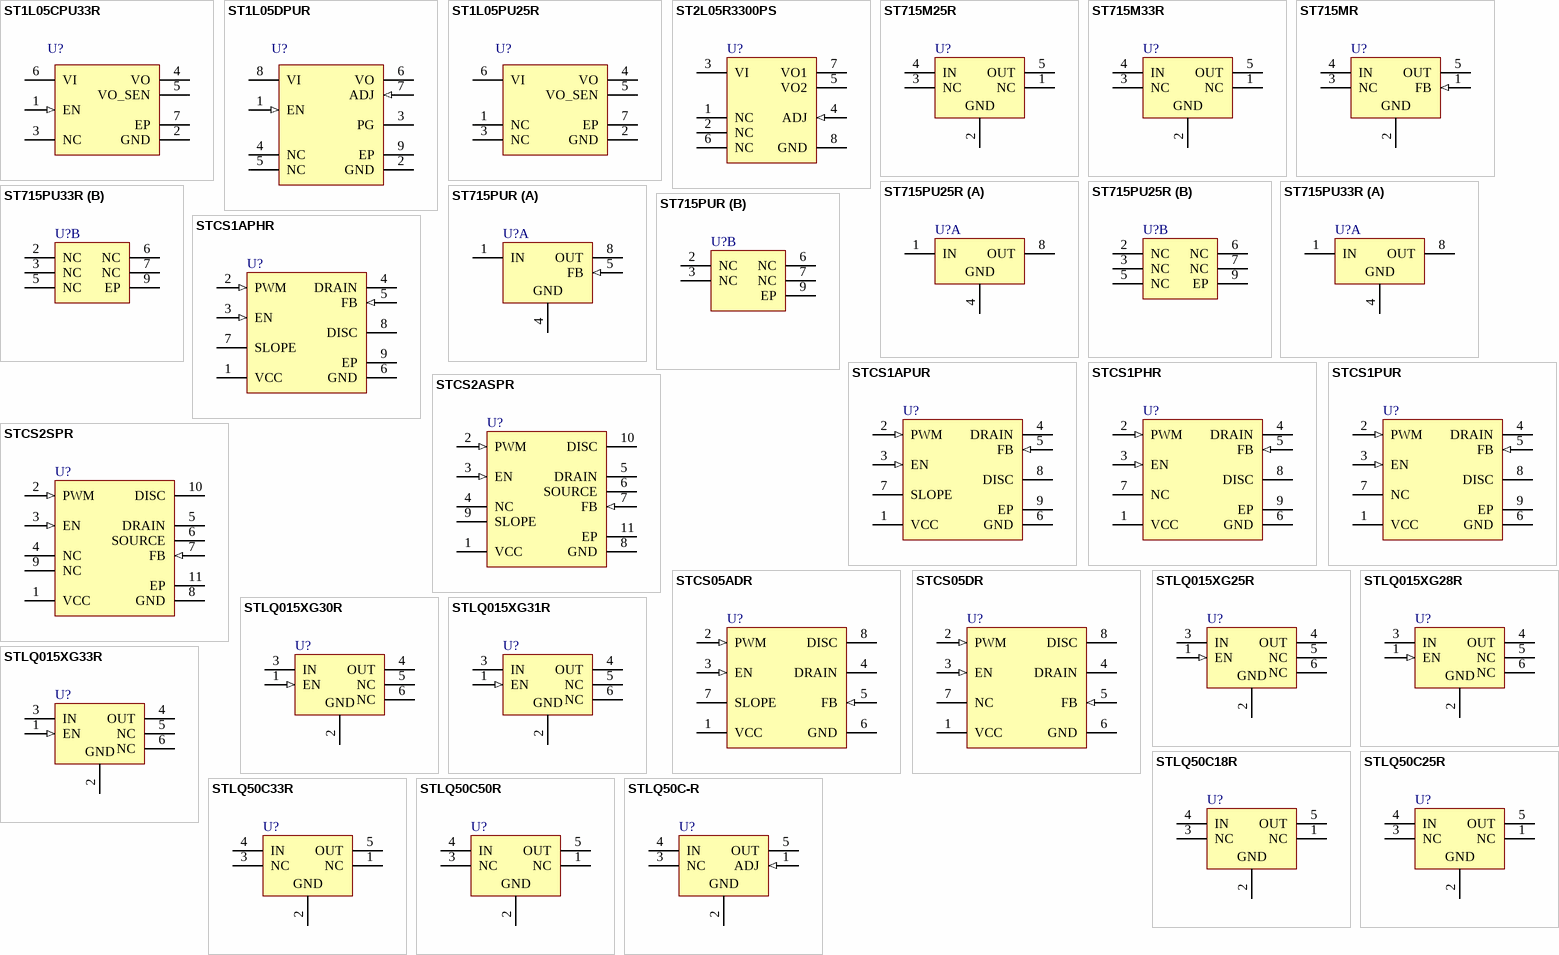
[diagram p12: symbols ST1L05CPU33R to STLQ50C-R]

## ST1L05CPU33R
designator U?
Very Low Quiescent BiCMOS Voltage Regulator, 3.3V, 6-Pin VFDFPN, Tape and Reel; PartNumber: ST1L05CPU33R; DatasheetVersion: Sep-2009; PackageVersion: 2008; PackageReference: DFN6D; PackageDescription: 6-Pin Plastic, Dual LLP, 3 x 3 mm Body, 0.95 mm Pitch, Exposed Pad; ComponentLink1Description: Manufacturer URL; ComponentLink1URL: http://www.st.com; ComponentLink2Description: Datasheet; ComponentLink2URL: http://www.st.com/internet/com/TECHNICAL_RESOURCES/TECHNICAL_LITERATURE/DATASHEET/CD00186925.pdf
footprint DFN6D_N (SON, 6-Leads, Body 3x3mm, Pitch 0.95mm, Thermal Pad 2.4x1.65mm, IPC Medium Density)
footprint DFN6D_L (SON, 6-Leads, Body 3x3mm, Pitch 0.95mm, Thermal Pad 2.4x1.65mm, IPC High Density)
footprint DFN6D_M (SON, 6-Leads, Body 3x3mm, Pitch 0.95mm, Thermal Pad 2.4x1.65mm, IPC Low Density)
pins: 1 EN (in), 2 GND (power), 3 NC, 4 VO (power), 5 VO_SEN, 6 VI (power), 7 EP (power)

## ST1L05DPUR
designator U?
Very Low Quiescent BiCMOS Voltage Regulator, Adjustable Vo, 8-Pin VFDFPN, Tape and Reel; PartNumber: ST1L05DPUR; DatasheetVersion: Sep-2009; PackageVersion: 2009; PackageReference: DFN(4x4); PackageDescription: 8-Pin DFN, 4 x 4 mm Body, 0.8 mm Pitch, Exposed Pad; ComponentLink1Description: Manufacturer URL; ComponentLink1URL: http://www.st.com; ComponentLink2Description: Datasheet; ComponentLink2URL: http://www.st.com/internet/com/TECHNICAL_RESOURCES/TECHNICAL_LITERATURE/DATASHEET/CD00186925.pdf
footprint DFN(4x4)_N (SON, 8-Leads, Body 4x4mm, Pitch 0.8mm, Thermal Pad 3x2.2mm, IPC Medium Density)
footprint DFN(4x4)_L (SON, 8-Leads, Body 4x4mm, Pitch 0.8mm, Thermal Pad 3x2.2mm, IPC High Density)
footprint DFN(4x4)_M (SON, 8-Leads, Body 4x4mm, Pitch 0.8mm, Thermal Pad 3x2.2mm, IPC Low Density)
pins: 1 EN (in), 2 GND (power), 3 PG (oc), 4 NC, 5 NC, 6 VO (power), 7 ADJ (in), 8 VI (power), 9 EP (power)

## ST1L05PU25R
designator U?
Very Low Quiescent BiCMOS Voltage Regulator, 2.5V, 6-Pin VFDFPN, Tape and Reel; PartNumber: ST1L05PU25R; DatasheetVersion: Sep-2009; PackageVersion: 2008; PackageReference: DFN6D; PackageDescription: 6-Pin Plastic, Dual LLP, 3 x 3 mm Body, 0.95 mm Pitch, Exposed Pad; ComponentLink1Description: Manufacturer URL; ComponentLink1URL: http://www.st.com; ComponentLink2Description: Datasheet; ComponentLink2URL: http://www.st.com/internet/com/TECHNICAL_RESOURCES/TECHNICAL_LITERATURE/DATASHEET/CD00186925.pdf
footprint DFN6D_N (SON, 6-Leads, Body 3x3mm, Pitch 0.95mm, Thermal Pad 2.4x1.65mm, IPC Medium Density)
footprint DFN6D_L (SON, 6-Leads, Body 3x3mm, Pitch 0.95mm, Thermal Pad 2.4x1.65mm, IPC High Density)
footprint DFN6D_M (SON, 6-Leads, Body 3x3mm, Pitch 0.95mm, Thermal Pad 2.4x1.65mm, IPC Low Density)
pins: 1 NC, 2 GND (power), 3 NC, 4 VO (power), 5 VO_SEN, 6 VI (power), 7 EP (power)

## ST2L05R3300PS
designator U?
Very-Low quiescent Current dual Voltage Regulator, Vo1: 3.3V, Vo2: Adjustable Vo, 8-Pin DFN; PartNumber: ST2L05R3300PS; DatasheetVersion: Feb-2009; PackageVersion: 2009; PackageReference: DFN8(5x6); PackageDescription: 8-Pin Dual Flat No-Lead, 5 x 6 x 1 mm Body, 1.27 mm Pitch, Exposed Pad; ComponentLink1Description: Manufacturer URL; ComponentLink1URL: http://www.st.com; ComponentLink2Description: Datasheet; ComponentLink2URL: http://www.st.com/internet/com/TECHNICAL_RESOURCES/TECHNICAL_LITERATURE/DATASHEET/CD00003344.pdf
footprint DFN8(5x6)_N (SON, 8-Leads, Body 5x6mm, Pitch 1.27mm, Thermal Pad 4.2x3.6mm, IPC Medium Density)
footprint DFN8(5x6)_L (SON, 8-Leads, Body 5x6mm, Pitch 1.27mm, Thermal Pad 4.2x3.6mm, IPC High Density)
footprint DFN8(5x6)_M (SON, 8-Leads, Body 5x6mm, Pitch 1.27mm, Thermal Pad 4.2x3.6mm, IPC Low Density)
pins: 1 NC, 2 NC, 3 VI (power), 4 ADJ (in), 5 VO2 (power), 6 NC, 7 VO1 (power), 8 GND (power)

## ST715M25R
designator U?
High Input Voltage - 85 mA LDO Linear Regulator, 2.5V, 5-Pin SOT-23, Tape and Reel; PartNumber: ST715M25R; DatasheetVersion: Jun-2010; PackageVersion: 2008; PackageReference: SOT23-5L; PackageDescription: 5-Pin SOT-23 Package, 2.9 x 1.6 mm Body, 0.95 mm Pitch, 2.8 mm Lead Span; ComponentLink1Description: Manufacturer URL; ComponentLink1URL: http://www.st.com; ComponentLink2Description: Datasheet; ComponentLink2URL: http://www.st.com/internet/com/TECHNICAL_RESOURCES/TECHNICAL_LITERATURE/DATASHEET/CD00184954.pdf
footprint SOT23-5L_N (SOT23, 5-Leads, Body 2.9x1.6mm, Pitch 0.95mm, Lead Span 2.8mm, IPC Medium Density)
footprint SOT23-5L_L (SOT23, 5-Leads, Body 2.9x1.6mm, Pitch 0.95mm, Lead Span 2.8mm, IPC High Density)
footprint SOT23-5L_M (SOT23, 5-Leads, Body 2.9x1.6mm, Pitch 0.95mm, Lead Span 2.8mm, IPC Low Density)
pins: 1 NC, 2 GND (power), 3 NC, 4 IN (power), 5 OUT (power)

## ST715M33R
designator U?
High Input Voltage - 85 mA LDO Linear Regulator, 3.3V, 5-Pin SOT-23, Tape and Reel; PartNumber: ST715M33R; DatasheetVersion: Jun-2010; PackageVersion: 2008; PackageReference: SOT23-5L; PackageDescription: 5-Pin SOT-23 Package, 2.9 x 1.6 mm Body, 0.95 mm Pitch, 2.8 mm Lead Span; ComponentLink1Description: Manufacturer URL; ComponentLink1URL: http://www.st.com; ComponentLink2Description: Datasheet; ComponentLink2URL: http://www.st.com/internet/com/TECHNICAL_RESOURCES/TECHNICAL_LITERATURE/DATASHEET/CD00184954.pdf
footprint SOT23-5L_N (SOT23, 5-Leads, Body 2.9x1.6mm, Pitch 0.95mm, Lead Span 2.8mm, IPC Medium Density)
footprint SOT23-5L_L (SOT23, 5-Leads, Body 2.9x1.6mm, Pitch 0.95mm, Lead Span 2.8mm, IPC High Density)
footprint SOT23-5L_M (SOT23, 5-Leads, Body 2.9x1.6mm, Pitch 0.95mm, Lead Span 2.8mm, IPC Low Density)
pins: 1 NC, 2 GND (power), 3 NC, 4 IN (power), 5 OUT (power)

## ST715MR
designator U?
High Input Voltage - 85 mA LDO Linear Regulator, Adjustable Vo, 5-Pin SOT-23, Tape and Reel; PartNumber: ST715MR; DatasheetVersion: Jun-2010; PackageVersion: 2008; PackageReference: SOT23-5L; PackageDescription: 5-Pin SOT-23 Package, 2.9 x 1.6 mm Body, 0.95 mm Pitch, 2.8 mm Lead Span; ComponentLink1Description: Manufacturer URL; ComponentLink1URL: http://www.st.com; ComponentLink2Description: Datasheet; ComponentLink2URL: http://www.st.com/internet/com/TECHNICAL_RESOURCES/TECHNICAL_LITERATURE/DATASHEET/CD00184954.pdf
footprint SOT23-5L_N (SOT23, 5-Leads, Body 2.9x1.6mm, Pitch 0.95mm, Lead Span 2.8mm, IPC Medium Density)
footprint SOT23-5L_L (SOT23, 5-Leads, Body 2.9x1.6mm, Pitch 0.95mm, Lead Span 2.8mm, IPC High Density)
footprint SOT23-5L_M (SOT23, 5-Leads, Body 2.9x1.6mm, Pitch 0.95mm, Lead Span 2.8mm, IPC Low Density)
pins: 1 FB (in), 2 GND (power), 3 NC, 4 IN (power), 5 OUT (power)

## ST715PU25R
designator U?
High Input Voltage - 85 mA LDO Linear Regulator, 2.5V, 8-Pin VFDFPN, Tape and Reel; PartNumber: ST715PU25R; DatasheetVersion: Jun-2010; PackageVersion: 2010; PackageReference: DFN8(3x3)-P065; PackageDescription: 8-Pin Dual Flat No-Lead, 3 x 3 x 1 mm Body, 0.65 mm Pitch, Exposed Pad; ComponentLink1Description: Manufacturer URL; ComponentLink1URL: http://www.st.com; ComponentLink2Description: Datasheet; ComponentLink2URL: http://www.st.com/internet/com/TECHNICAL_RESOURCES/TECHNICAL_LITERATURE/DATASHEET/CD00184954.pdf
footprint DFN8(3x3)-P065_N (SON, 8-Leads, Body 3x3mm, Pitch 0.65mm, Thermal Pad 1.75x1.5mm, IPC Medium Density)
footprint DFN8(3x3)-P065_L (SON, 8-Leads, Body 3x3mm, Pitch 0.65mm, Thermal Pad 1.75x1.5mm, IPC High Density)
footprint DFN8(3x3)-P065_M (SON, 8-Leads, Body 3x3mm, Pitch 0.65mm, Thermal Pad 1.75x1.5mm, IPC Low Density)
part A pins: 1 IN (power), 4 GND (power), 8 OUT (power)
part B pins: 2 NC, 3 NC, 5 NC, 6 NC, 7 NC, 9 EP

## ST715PU33R
designator U?
High Input Voltage - 85 mA LDO Linear Regulator, 3.3V, 8-Pin VFDFPN, Tape and Reel; PartNumber: ST715PU33R; DatasheetVersion: Jun-2010; PackageVersion: 2010; PackageReference: DFN8(3x3)-P065; PackageDescription: 8-Pin Dual Flat No-Lead, 3 x 3 x 1 mm Body, 0.65 mm Pitch, Exposed Pad; ComponentLink1Description: Manufacturer URL; ComponentLink1URL: http://www.st.com; ComponentLink2Description: Datasheet; ComponentLink2URL: http://www.st.com/internet/com/TECHNICAL_RESOURCES/TECHNICAL_LITERATURE/DATASHEET/CD00184954.pdf
footprint DFN8(3x3)-P065_N (SON, 8-Leads, Body 3x3mm, Pitch 0.65mm, Thermal Pad 1.75x1.5mm, IPC Medium Density)
footprint DFN8(3x3)-P065_L (SON, 8-Leads, Body 3x3mm, Pitch 0.65mm, Thermal Pad 1.75x1.5mm, IPC High Density)
footprint DFN8(3x3)-P065_M (SON, 8-Leads, Body 3x3mm, Pitch 0.65mm, Thermal Pad 1.75x1.5mm, IPC Low Density)
part A pins: 1 IN (power), 4 GND (power), 8 OUT (power)
part B pins: 2 NC, 3 NC, 5 NC, 6 NC, 7 NC, 9 EP

## ST715PUR
designator U?
High Input Voltage - 85 mA LDO Linear Regulator, Adjustable Vo, 8-Pin VFDFPN, Tape and Reel; PartNumber: ST715PUR; DatasheetVersion: Jun-2010; PackageVersion: 2010; PackageReference: DFN8(3x3)-P065; PackageDescription: 8-Pin Dual Flat No-Lead, 3 x 3 x 1 mm Body, 0.65 mm Pitch, Exposed Pad; ComponentLink1Description: Manufacturer URL; ComponentLink1URL: http://www.st.com; ComponentLink2Description: Datasheet; ComponentLink2URL: http://www.st.com/internet/com/TECHNICAL_RESOURCES/TECHNICAL_LITERATURE/DATASHEET/CD00184954.pdf
footprint DFN8(3x3)-P065_N (SON, 8-Leads, Body 3x3mm, Pitch 0.65mm, Thermal Pad 1.75x1.5mm, IPC Medium Density)
footprint DFN8(3x3)-P065_L (SON, 8-Leads, Body 3x3mm, Pitch 0.65mm, Thermal Pad 1.75x1.5mm, IPC High Density)
footprint DFN8(3x3)-P065_M (SON, 8-Leads, Body 3x3mm, Pitch 0.65mm, Thermal Pad 1.75x1.5mm, IPC Low Density)
part A pins: 1 IN (power), 4 GND (power), 5 FB (in), 8 OUT (power)
part B pins: 2 NC, 3 NC, 6 NC, 7 NC, 9 EP

## STCS1APHR
designator U?
1.5A Max Constant Current LED driver, 8-Pin PowerSO, Tape and Reel; PartNumber: STCS1APHR; DatasheetVersion: Jul-2008; PackageVersion: 2008; PackageReference: PowerSO-8; PackageDescription: 8-Pin PowerSO, 4.9 x 3.9 mm Body, 1.27 mm Pitch; ComponentLink1Description: Manufacturer URL; ComponentLink1URL: http://www.st.com; ComponentLink2Description: Datasheet; ComponentLink2URL: http://www.st.com/internet/com/TECHNICAL_RESOURCES/TECHNICAL_LITERATURE/DATASHEET/CD00185793.pdf; ComponentLink3Description: Package Specification; ComponentLink3URL: http://www.st.com/internet/com/TECHNICAL_RESOURCES/TECHNICAL_LITERATURE/PACKAGE_INFORMATION/CD00004779.pdf
footprint PowerSO-8_N (SOIC, 8-Leads, Body 4.9x3.9mm, Pitch 1.27mm, Thermal Pad, IPC Medium Density)
footprint PowerSO-8_L (SOIC, 8-Leads, Body 4.9x3.9mm, Pitch 1.27mm, Thermal Pad, IPC High Density)
footprint PowerSO-8_M (SOIC, 8-Leads, Body 4.9x3.9mm, Pitch 1.27mm, Thermal Pad, IPC Low Density)
pins: 1 VCC (power), 2 PWM (in), 3 EN (in), 4 DRAIN (oc), 5 FB (in), 6 GND (power), 7 SLOPE, 8 DISC (oc), 9 EP (power)

## STCS1APUR
designator U?
1.5A Max Constant Current LED driver, 8-Pin VDFPN, Tape and Reel; PartNumber: STCS1APUR; DatasheetVersion: Jul-2008; PackageVersion: 2008; PackageReference: DFN8(3x3)-P050; PackageDescription: 8-Pin Dual Flat No-Lead, 3 x 3 x 1 mm Body, 0.5 mm Pitch, Exposed Pad; ComponentLink1Description: Manufacturer URL; ComponentLink1URL: http://www.st.com; ComponentLink2Description: Datasheet; ComponentLink2URL: http://www.st.com/internet/com/TECHNICAL_RESOURCES/TECHNICAL_LITERATURE/DATASHEET/CD00185793.pdf
footprint DFN8(3x3)-P050_N (SON, 8-Leads, Body 3x3mm, Pitch 0.5mm, Thermal Pad 2.38x1.64mm, IPC Medium Density)
footprint DFN8(3x3)-P050_L (SON, 8-Leads, Body 3x3mm, Pitch 0.5mm, Thermal Pad 2.38x1.64mm, IPC High Density)
footprint DFN8(3x3)-P050_M (SON, 8-Leads, Body 3x3mm, Pitch 0.5mm, Thermal Pad 2.38x1.64mm, IPC Low Density)
pins: 1 VCC (power), 2 PWM (in), 3 EN (in), 4 DRAIN (oc), 5 FB (in), 6 GND (power), 7 SLOPE, 8 DISC (oc), 9 EP (power)

## STCS1PHR
designator U?
1.5A Max Constant Current LED driver, 8-Pin PowerSO, Tape and Reel; PartNumber: STCS1PHR; DatasheetVersion: Jul-2008; PackageVersion: 2007; PackageReference: HSO-8; PackageDescription: 8-Pin Small Outline Integrated Circuit 1.27 mm Pitch; ComponentLink1Description: Manufacturer URL; ComponentLink1URL: http://www.st.com; ComponentLink2Description: Datasheet; ComponentLink2URL: http://www.st.com/internet/com/TECHNICAL_RESOURCES/TECHNICAL_LITERATURE/DATASHEET/CD00156614.pdf
footprint HSO-8_N (SOIC, 8-Leads, Body 4.9x3.9mm, Pitch 1.27mm, Thermal Pad, IPC Medium Density)
footprint HSO-8_L (SOIC, 8-Leads, Body 4.9x3.9mm, Pitch 1.27mm, Thermal Pad, IPC High Density)
footprint HSO-8_M (SOIC, 8-Leads, Body 4.9x3.9mm, Pitch 1.27mm, Thermal Pad, IPC Low Density)
pins: 1 VCC (power), 2 PWM (in), 3 EN (in), 4 DRAIN (oc), 5 FB (in), 6 GND (power), 7 NC, 8 DISC (oc), 9 EP (power)

## STCS1PUR
designator U?
1.5A Max Constant Current LED driver, 8-Pin VDFPN, Tape and Reel; PartNumber: STCS1PUR; DatasheetVersion: Jul-2008; PackageVersion: 2008; PackageReference: DFN8(3x3)-P050; PackageDescription: 8-Pin Dual Flat No-Lead, 3 x 3 x 1 mm Body, 0.5 mm Pitch, Exposed Pad; ComponentLink1Description: Manufacturer URL; ComponentLink1URL: http://www.st.com; ComponentLink2Description: Datasheet; ComponentLink2URL: http://www.st.com/internet/com/TECHNICAL_RESOURCES/TECHNICAL_LITERATURE/DATASHEET/CD00156614.pdf
footprint DFN8(3x3)-P050_N (SON, 8-Leads, Body 3x3mm, Pitch 0.5mm, Thermal Pad 2.38x1.64mm, IPC Medium Density)
footprint DFN8(3x3)-P050_L (SON, 8-Leads, Body 3x3mm, Pitch 0.5mm, Thermal Pad 2.38x1.64mm, IPC High Density)
footprint DFN8(3x3)-P050_M (SON, 8-Leads, Body 3x3mm, Pitch 0.5mm, Thermal Pad 2.38x1.64mm, IPC Low Density)
pins: 1 VCC (power), 2 PWM (in), 3 EN (in), 4 DRAIN (oc), 5 FB (in), 6 GND (power), 7 NC, 8 DISC (oc), 9 EP (power)

## STCS2ASPR
designator U?
1.5A Max Constant Current LED driver, 10-Pin PowerSO, Tape and Reel; PartNumber: STCS2ASPR; DatasheetVersion: Jul-2008; PackageVersion: 2007; PackageReference: PowerSO-10; PackageDescription: 10-Pin Small Outline Package, 7.5 x 9.4 x 3.5 mm Body, 1.27 mm Pitch, Exposed Pad; ComponentLink1Description: Manufacturer URL; ComponentLink1URL: http://www.st.com; ComponentLink2Description: Datasheet; ComponentLink2URL: http://www.st.com/internet/com/TECHNICAL_RESOURCES/TECHNICAL_LITERATURE/DATASHEET/CD00185795.pdf
footprint PowerSO-10_N (SOP, 10-Leads, Body 7.5x9.4mm, Pitch 1.27mm, Thermal Pad, IPC Medium Density)
footprint PowerSO-10_L (SOP, 10-Leads, Body 7.5x9.4mm, Pitch 1.27mm, Thermal Pad, IPC High Density)
footprint PowerSO-10_M (SOP, 10-Leads, Body 7.5x9.4mm, Pitch 1.27mm, Thermal Pad, IPC Low Density)
pins: 1 VCC (power), 2 PWM (in), 3 EN (in), 4 NC, 5 DRAIN (oc), 6 SOURCE (oe), 7 FB (in), 8 GND (power), 9 SLOPE, 10 DISC (oc), 11 EP (power)

## STCS2SPR
designator U?
1.5A Max Constant Current LED driver, 10-Pin PowerSO, Tape and Reel; PartNumber: STCS2SPR; DatasheetVersion: Jul-2008; PackageVersion: 2007; PackageReference: PowerSO-10; PackageDescription: 10-Pin Small Outline Package, 7.5 x 9.4 x 3.5 mm Body, 1.27 mm Pitch, Exposed Pad; ComponentLink1Description: Manufacturer URL; ComponentLink1URL: http://www.st.com; ComponentLink2Description: Datasheet; ComponentLink2URL: http://www.st.com/internet/com/TECHNICAL_RESOURCES/TECHNICAL_LITERATURE/DATASHEET/CD00172746.pdf
footprint PowerSO-10_N (SOP, 10-Leads, Body 7.5x9.4mm, Pitch 1.27mm, Thermal Pad, IPC Medium Density)
footprint PowerSO-10_L (SOP, 10-Leads, Body 7.5x9.4mm, Pitch 1.27mm, Thermal Pad, IPC High Density)
footprint PowerSO-10_M (SOP, 10-Leads, Body 7.5x9.4mm, Pitch 1.27mm, Thermal Pad, IPC Low Density)
pins: 1 VCC (power), 2 PWM (in), 3 EN (in), 4 NC, 5 DRAIN (oc), 6 SOURCE (oe), 7 FB (in), 8 GND (power), 9 NC, 10 DISC (oc), 11 EP (power)

## STCS05ADR
designator U?
0.5 A Max Constant Current LED Driver, 8-Pin SO, Tape and Reel; PartNumber: STCS05ADR; DatasheetVersion: Jul-2008; PackageVersion: Dec-2002; PackageReference: SO8; PackageDescription: 8-Pin Small Outline Integrated Circuit 1.27 mm Pitch; Code_JEDEC: MS-012-AA; Code_IPC: SOIC127P600-8; ComponentLink1Description: Manufacturer URL; ComponentLink1URL: http://www.st.com; ComponentLink2Description: Datasheet; ComponentLink2URL: http://www.st.com/internet/com/TECHNICAL_RESOURCES/TECHNICAL_LITERATURE/DATASHEET/CD00187179.pdf; ComponentLink3Description: Package Specification; ComponentLink3URL: http://www.st.com/internet/com/TECHNICAL_RESOURCES/TECHNICAL_LITERATURE/PACKAGE_INFORMATION/CD00004680.pdf
footprint SO8_N (SOIC, 8-Leads, Body 4.9x3.9mm, Pitch 1.27mm, IPC Medium Density)
footprint SO8_L (SOIC, 8-Leads, Body 4.9x3.9mm, Pitch 1.27mm, IPC High Density)
footprint SO8_M (SOIC, 8-Leads, Body 4.9x3.9mm, Pitch 1.27mm, IPC Low Density)
pins: 1 VCC (power), 2 PWM (in), 3 EN (in), 4 DRAIN (oc), 5 FB (in), 6 GND (power), 7 SLOPE, 8 DISC (oc)

## STCS05DR
designator U?
1.5A Max Constant Current LED driver, 8-Pin SO, Tape and Reel; PartNumber: STCS05DR; DatasheetVersion: Jul-2008; PackageVersion: Dec-2002; PackageReference: SO8; PackageDescription: 8-Pin Small Outline Integrated Circuit 1.27 mm Pitch; Code_JEDEC: MS-012-AA; Code_IPC: SOIC127P600-8; ComponentLink1Description: Manufacturer URL; ComponentLink1URL: http://www.st.com; ComponentLink2Description: Datasheet; ComponentLink2URL: http://www.st.com/internet/com/TECHNICAL_RESOURCES/TECHNICAL_LITERATURE/DATASHEET/CD00172756.pdf; ComponentLink3Description: Package Specification; ComponentLink3URL: http://www.st.com/internet/com/TECHNICAL_RESOURCES/TECHNICAL_LITERATURE/PACKAGE_INFORMATION/CD00004680.pdf
footprint SO8_N (SOIC, 8-Leads, Body 4.9x3.9mm, Pitch 1.27mm, IPC Medium Density)
footprint SO8_L (SOIC, 8-Leads, Body 4.9x3.9mm, Pitch 1.27mm, IPC High Density)
footprint SO8_M (SOIC, 8-Leads, Body 4.9x3.9mm, Pitch 1.27mm, IPC Low Density)
pins: 1 VCC (power), 2 PWM (in), 3 EN (in), 4 DRAIN (oc), 5 FB (in), 6 GND (power), 7 NC, 8 DISC (oc)

## STLQ015XG25R
designator U?
150 mA - Ultra Low Quiescent Current Linear Voltage Regulator, 2.5V, 6-Pin SOT-666, Tape and Reel; PartNumber: STLQ015XG25R; DatasheetVersion: Jan-2011; PackageVersion: 2011; PackageReference: SOT666; PackageDescription: 6-Pin Dual Lead-Flat Package 0.5 mm Pitch; ComponentLink1Description: Manufacturer URL; ComponentLink1URL: http://www.st.com; ComponentLink2Description: Datasheet; ComponentLink2URL: http://www.st.com/internet/com/TECHNICAL_RESOURCES/TECHNICAL_LITERATURE/DATASHEET/CD00268765.pdf
footprint SOT666 (SOP, 6-Flat Leads, Body 1.6x1.6x0.6mm, inc leads (LxWxH typ), Pitch 0.5mm, ST Recommended)
pins: 1 EN (in), 2 GND (power), 3 IN (power), 4 OUT (power), 5 NC, 6 NC

## STLQ015XG28R
designator U?
150 mA - Ultra Low Quiescent Current Linear Voltage Regulator, 2.8V, 6-Pin SOT-666, Tape and Reel; PartNumber: STLQ015XG28R; DatasheetVersion: Jan-2011; PackageVersion: 2011; PackageReference: SOT666; PackageDescription: 6-Pin Dual Lead-Flat Package 0.5 mm Pitch; ComponentLink1Description: Manufacturer URL; ComponentLink1URL: http://www.st.com; ComponentLink2Description: Datasheet; ComponentLink2URL: http://www.st.com/internet/com/TECHNICAL_RESOURCES/TECHNICAL_LITERATURE/DATASHEET/CD00268765.pdf
footprint SOT666 (SOP, 6-Flat Leads, Body 1.6x1.6x0.6mm, inc leads (LxWxH typ), Pitch 0.5mm, ST Recommended)
pins: 1 EN (in), 2 GND (power), 3 IN (power), 4 OUT (power), 5 NC, 6 NC

## STLQ015XG30R
designator U?
150 mA - Ultra Low Quiescent Current Linear Voltage Regulator, 3.0V, 6-Pin SOT-666, Tape and Reel; PartNumber: STLQ015XG30R; DatasheetVersion: Jan-2011; PackageVersion: 2011; PackageReference: SOT666; PackageDescription: 6-Pin Dual Lead-Flat Package 0.5 mm Pitch; ComponentLink1Description: Manufacturer URL; ComponentLink1URL: http://www.st.com; ComponentLink2Description: Datasheet; ComponentLink2URL: http://www.st.com/internet/com/TECHNICAL_RESOURCES/TECHNICAL_LITERATURE/DATASHEET/CD00268765.pdf
footprint SOT666 (SOP, 6-Flat Leads, Body 1.6x1.6x0.6mm, inc leads (LxWxH typ), Pitch 0.5mm, ST Recommended)
pins: 1 EN (in), 2 GND (power), 3 IN (power), 4 OUT (power), 5 NC, 6 NC